# EAGLE library part MBED_NXP_LPC1768 (library MBED_v2.1)
Mbed LPC1768 - ARM CORTEX v2.1 * Schematic symbol is now placed in eagles's default raster. *The pads diameter are suitable for routing between mbed pins * mbed pads are 0.8 mm drill diameter. --------------------------------------------- Created by: Mohamed Yousry *Alexandria, Egypt *Email: mohamed.yousry@ieeegoldegypt.org
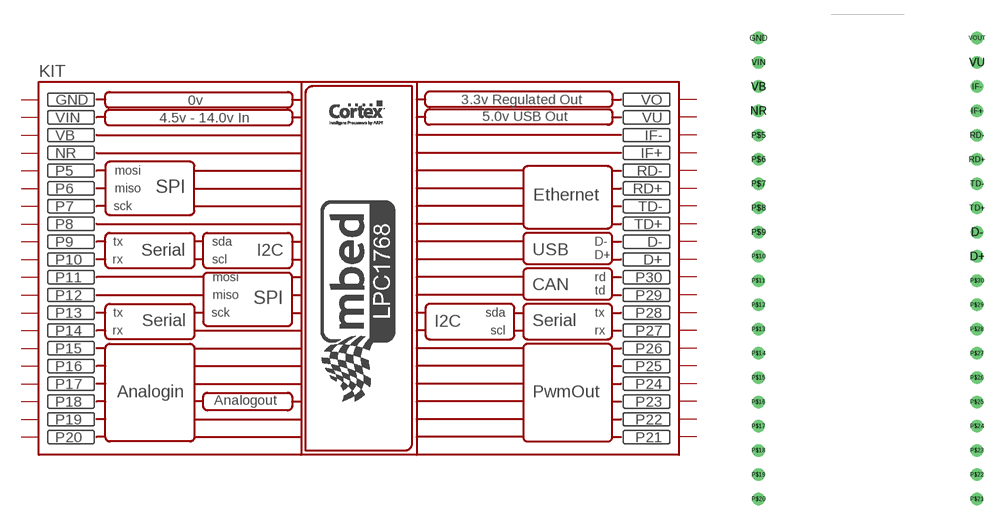
[diagram p0: symbol with the pads of MBED-KIT; footprint MBED-KIT]

Designator prefix KIT

## MBED_NXP_LPC1768  [MBED-KIT]
D+  D+
D-  D-
GND  GND  pwr
IF+  IF+
IF-  IF-
NR  NR  pwr
P$5  P5
P$6  P6
P$7  P7
P$8  P8
P$9  P9
P$10  P10
P$11  P11
P$12  P12
P$13  P13
P$14  P14
P$15  P15
P$16  P16
P$17  P17
P$18  P18
P$19  P19
P$20  P20
P$21  P21
P$22  P22
P$23  P23
P$24  P24
P$25  P25
P$26  P26
P$27  P27
P$28  P28
P$29  P29
P$30  P30
RD+  RD+
RD-  RD-
TD+  TD+
TD-  TD-
VB  VB  pwr
VIN  VIN  pwr
VOUT  VO  pwr
VU  VU  pwr

## Footprint MBED-KIT (pad centres in mm)
drill 0.8: D+ 11.43,1.27; D- 11.43,3.81; GND -11.43,24.13; IF+ 11.43,16.51; IF- 11.43,19.05; NR -11.43,16.51; P$5 -11.43,13.97; P$6 -11.43,11.43; P$7 -11.43,8.89; P$8 -11.43,6.35; P$9 -11.43,3.81; P$10 -11.43,1.27; P$11 -11.43,-1.27; P$12 -11.43,-3.81; P$13 -11.43,-6.35; P$14 -11.43,-8.89; P$15 -11.43,-11.43; P$16 -11.43,-13.97; P$17 -11.43,-16.51; P$18 -11.43,-19.05; P$19 -11.43,-21.59; P$20 -11.43,-24.13; P$21 11.43,-24.13; P$22 11.43,-21.59; P$23 11.43,-19.05; P$24 11.43,-16.51; P$25 11.43,-13.97; P$26 11.43,-11.43; P$27 11.43,-8.89; P$28 11.43,-6.35; P$29 11.43,-3.81; P$30 11.43,-1.27; RD+ 11.43,11.43; RD- 11.43,13.97; TD+ 11.43,6.35; TD- 11.43,8.89; VB -11.43,19.05; VIN -11.43,21.59; VOUT 11.43,24.13; VU 11.43,21.59